# EAGLE library part NRF24L01_ML01SP4 (library NEON-BLADE-2024-new)
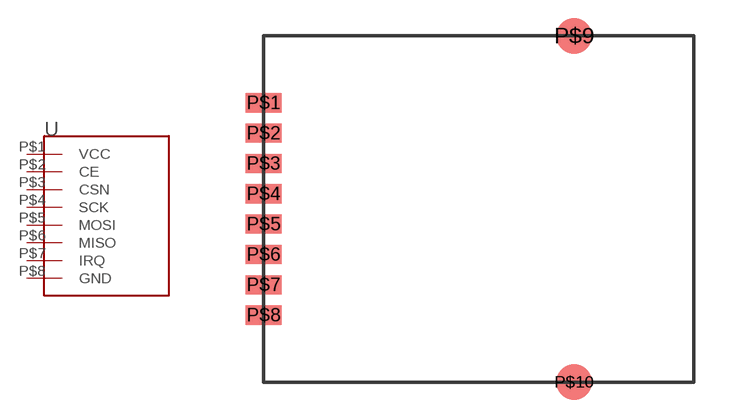
[diagram p33: symbol with the pads of NRF24L01_ML01SP4; footprint NRF24L01_ML01SP4]

Designator prefix -

## NRF24L01_ML01SP4  [NRF24L01_ML01SP4]
P$1  VCC
P$2  CE
P$3  CSN
P$4  SCK
P$5  MOSI
P$6  MISO
P$7  IRQ
P$8  GND

## Footprint NRF24L01_ML01SP4 (pad centres in mm)
smd 1.5 x 0.8: P$1 -9,4.445; P$2 -9,3.175; P$3 -9,1.905; P$4 -9,0.635; P$5 -9,-0.635; P$6 -9,-1.905; P$7 -9,-3.175; P$8 -9,-4.445
smd 1.5 x 1.5: P$9 4,7.25; P$10 4,-7.25